# Altium schematic symbol library LT8471.SchLib: 1 symbol
Pins are listed as number, name and electrical type; pins without a type are passive.

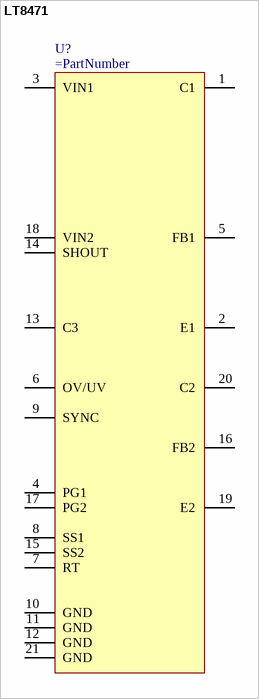
[diagram p0: symbol LT8471]

## LT8471
designator U?
pins: 1 C1, 2 E1, 3 VIN1, 4 PG1, 5 FB1, 6 OV/UV, 7 RT, 8 SS1, 9 SYNC, 10 GND, 11 GND, 12 GND, 13 C3, 14 SHOUT, 15 SS2, 16 FB2, 17 PG2, 18 VIN2, 19 E2, 20 C2, 21 GND